# EAGLE library part TPS562209 (library ICs)
4.5V to 17 V Input, 2-A, Synchronous Step-Down Voltage Regulator in 6 pin SOT-23
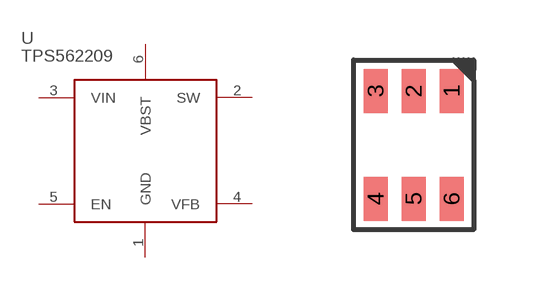
[diagram p92: symbol with the pads of SOT23-6; footprint SOT23-6]

Designator prefix U

## TPS562209DDCT (DIGIKEY: 296-40812-1-ND; HEIGHT: 1; PRICE_PER: 0.56; VALUE: TPS562209)  [SOT23-6]
1  GND
2  SW
3  VIN
4  VFB
5  EN
6  VBST

## Footprint SOT23-6 (pad centres in mm)
smd 0.6 x 1.1: 1 0.95,1.35; 2 0,1.35; 3 -0.95,1.35; 4 -0.95,-1.35; 5 0,-1.35; 6 0.95,-1.35